# Altium schematic symbol library 刘杨_元件库.SchLib: 3 symbols
Pins are listed as number, name and electrical type; pins without a type are passive.

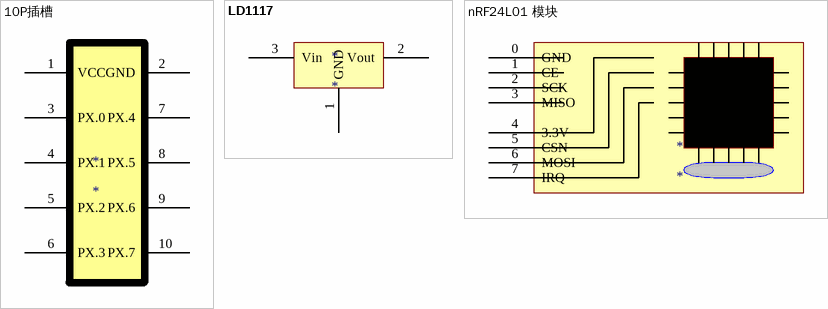
[diagram p0: symbols 10P插槽 to nRF24L01 模块]

## 10P插槽
designator *
pins: 1 VCC, 2 GND, 3 PX.0, 4 PX.1, 5 PX.2, 6 PX.3, 7 PX.4, 8 PX.5, 9 PX.6, 10 PX.7

## LD1117
designator *
pins: 1 GND, 2 Vout, 3 Vin

## nRF24L01 模块
designator *
pins: 0 GND, 1 CE, 2 SCK, 3 MISO, 4 3.3V, 5 CSN, 6 MOSI, 7 IRQ